# Altium integrated library Indutores.IntLib: 4 symbols
Pins are listed as number, name and electrical type; pins without a type are passive.

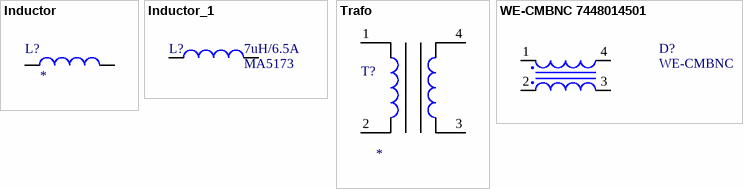
[diagram p0: symbols Inductor to WE-CMBNC 7448014501]

## Inductor
designator L?  (value not drawn)
Value: *
footprint Ind 10mm (Indutor radial corpo 10mm)
footprint TrafoInductor
pins: 1, 2

## Inductor_1
designator L?, comment MA5173  value 7uH/6.5A
Inductor; Code_IEC: 1005; LatestRevisionDate: 29-May-2009; LatestRevisionNote: IPC-7351 Footprint Added.; PackageReference: 0402-A; Publisher: Altium Limited; PackageDescription: Chip Inductor; Code_JEITA: 0402
footprint Ind 10mm (Indutor radial corpo 10mm)
footprint Inductor MA5173-AE (Inductor MA5173-AE CoilCraft)
pins: 1, 2

## Trafo
designator T?  (value not drawn)
Value: *
footprint Trafo
pins: 1, 2, 3, 4

## WE-CMBNC 7448014501
designator D?, comment WE-CMBNC
WE-CMBNC Common Mode Power Line  Choke Nanocrystalline; Montagem: PTH; Fornecedor1: Wurth; ComponentLinkDescription1: Datasheet; ComponentLinkURL1: *; Valor/Partnumber: WE-CMBNC
footprint InductorWurth100x45
pins: 1, 2, 3, 4